# Altium footprint library resistor-shunt.PCBLIB: 14 footprints
Each footprint in its own frame and in the unit in brackets; x right, y up, seen from the top. Pads: shape width x height; smd on the part's side, far side on the other; paste and mask are expansions set on the pad; w line width, h text height; cw(c..) or ccw(c..) is an arc to the next point about the centre after c.
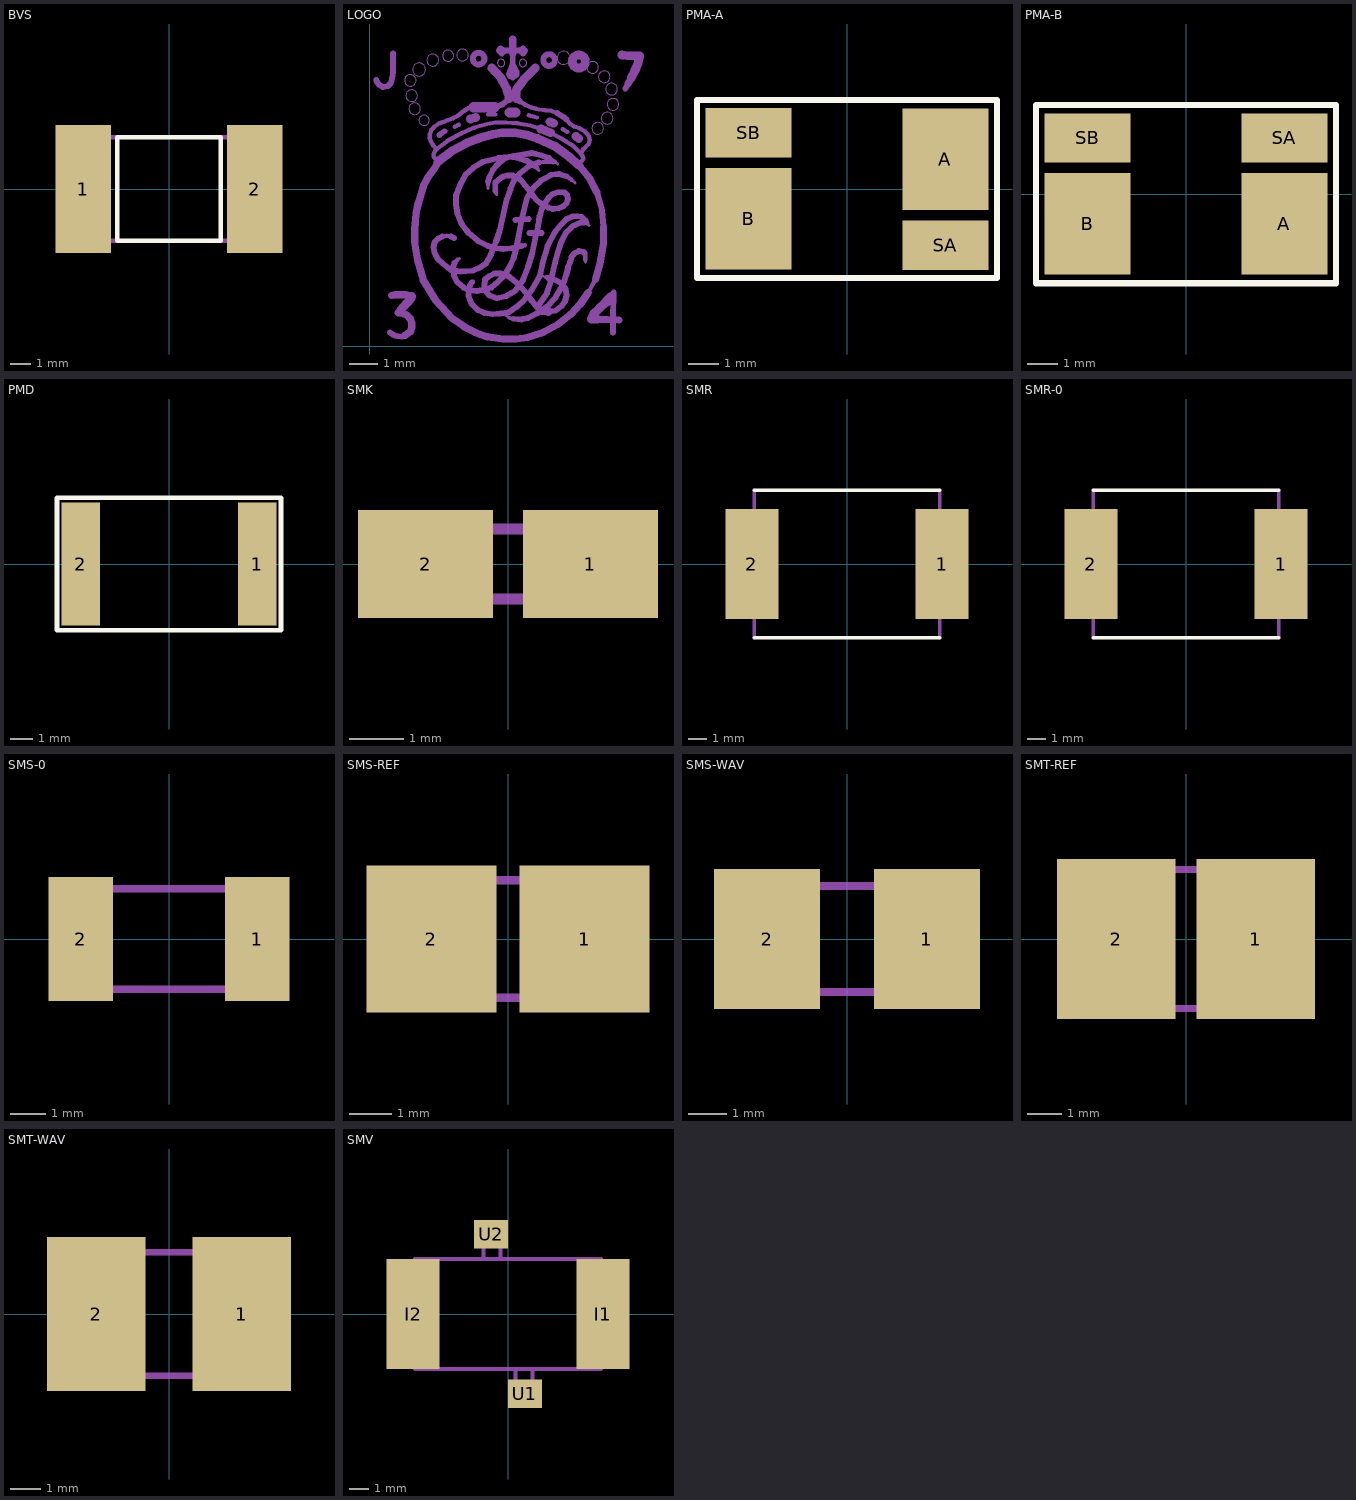
[diagram p0: the footprints below, top view; thin cyan lines are the x and y axes]

## BVS [mil]
pads (2):
  rect 106.3x244.09 smd: 1(-163,0) 2(163,0)
Top Overlay:
  lines w8: -98.43,-98.43 98.43,-98.43 98.43,98.43 -98.43,98.43 -98.43,-98.43
Mechanical 16:
  lines w8: -98.43,-98.43 -192.91,-98.43 -192.91,98.43 -98.43,98.43 ; 98.43,-98.43 192.91,-98.43 192.91,98.43 98.43,98.43

## LOGO [mil]
Mechanical 16:
  drawing of 409 lines, arcs and shapes, not listed

## PMA-A [mil]
pads (4):
  rect 110.24x129.92 smd: A(126,38) B(-126,-38)
  rect 110.24x62.99 smd: SA(126,-72) SB(-126,72)
Top Overlay:
  lines w8: -192,-114 192,-114 192,114 -192,114 -192,-114

## PMA-B [mil]
pads (4):
  rect 110.24x129.92 smd: A(126,-38) B(-126,-38)
  rect 110.24x62.99 smd: SA(126,72) SB(-126,72)
Top Overlay:
  lines w8: -192,-114 192,-114 192,114 -192,114 -192,-114

## PMD [mil]
pads (2):
  rect 66.93x212.6 smd: 1(152,0) 2(-152,0)
Top Overlay:
  lines w8: -192.91,-114.17 192.91,-114.17 192.91,114.17 -192.91,114.17 -192.91,-114.17

## SMK [mil]
pads (2):
  rect 98.43x78.74 smd: 1(60,0) 2(-60,0)
Mechanical 16:
  lines w8: -55.12,-25.59 -55.12,25.59 55.12,25.59 55.12,-25.59 -55.12,-25.59

## SMR [mil]
pads (2):
  rect 110.24x228.35 smd: 1(198,0) 2(-198,0)
Top Overlay:
  lines w8: -192.91,-153.54 192.91,-153.54 ; -192.91,153.54 192.91,153.54
Mechanical 16:
  lines w8: -196.49,94.49 -232.28,94.49 -232.28,-94.49 -194.49,-94.49 ; -192.91,-153.54 -192.91,153.54 ; 192.91,-153.54 192.91,153.54 ; 194.49,-94.49 232.28,-94.49 232.28,94.49 194.49,94.49

## SMR-0 [mil]
pads (2):
  rect 110.24x228.35 smd: 1(198,0) 2(-198,0)
Top Overlay:
  lines w8: -192.91,-153.54 192.91,-153.54 ; -192.91,153.54 192.91,153.54
Mechanical 16:
  lines w8: -194.49,-94.49 -232.28,-94.49 -232.28,94.49 -194.49,94.49 ; -192.91,-153.54 -192.91,153.54 ; 192.91,-153.54 192.91,153.54 ; 194.49,-94.49 232.28,-94.49 232.28,94.49 194.49,94.49

## SMS-0 [mil]
pads (2):
  rect 70.87x135.83 smd: 1(97,0) 2(-97,0)
Mechanical 16:
  lines w8: -120.87,-55.12 -120.87,55.12 120.87,55.12 120.87,-55.12 -120.87,-55.12

## SMS-REF [mil]
pads (2):
  rect 122.05x137.8 smd: 1(72,0) 2(-72,0)
Mechanical 16:
  lines w8: -121.06,-55.12 -121.06,55.12 121.06,55.12 121.06,-55.12 -121.06,-55.12

## SMS-WAV [mil]
pads (2):
  rect 110.24x145.67 smd: 1(83,0) 2(-83,0)
Mechanical 16:
  lines w8: -121.06,-55.12 -121.06,55.12 121.06,55.12 121.06,-55.12 -121.06,-55.12

## SMT-REF [mil]
pads (2):
  rect 133.86x181.1 smd: 1(79,0) 2(-79,0)
Mechanical 16:
  lines w8: -135.83,-78.74 -135.83,78.74 135.83,78.74 135.83,-78.74 -135.83,-78.74

## SMT-WAV [mil]
pads (2):
  rect 125.98x196.85 smd: 1(93,0) 2(-93,0)
Mechanical 16:
  lines w8: -135.83,-78.74 -135.83,78.74 135.83,78.74 135.83,-78.74 -135.83,-78.74

## SMV [mil]
pads (4):
  rect 110.24x228.35 smd: I1(197,0) I2(-197,0)
  rect 70.87x59.06 smd: U1(35,-165.63) U2(-35,165.63)
Mechanical 16:
  lines w8: -195.49,-94.49 -232.28,-94.49 -232.28,94.49 -194.49,94.49 ; -51.18,117.88 -51.18,173.23 -15.75,173.23 -15.75,117.88 ; 15.75,-117.88 15.75,-173.23 51.18,-173.23 51.18,-117.88 ; 194.49,-94.49 232.28,-94.49 232.28,94.49 194.49,94.49 ; -192.91,-114.17 -192.91,114.17 192.91,114.17 192.91,-114.17 -192.91,-114.17